# EAGLE library part 4065_BREAKOUT (library coral_power)
TP4056 Micro USB 5V 1A 18650 Lithium Battery Charger Board, with Overcharge Over-Discharge Over-Current Protection
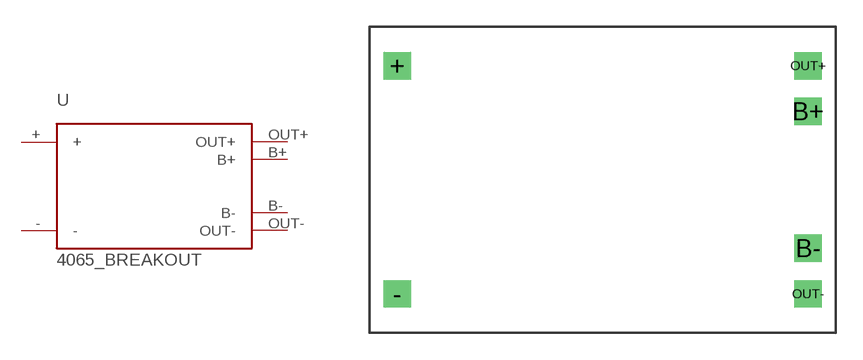
[diagram p0: symbol with the pads of CHARGE_MODULE; footprint CHARGE_MODULE]

Designator prefix -

## 4065_BREAKOUT  [CHARGE_MODULE]
+  +  in
-  -  in
B+  B+  out
B-  B-  out
OUT+  OUT+  out
OUT-  OUT-  out

## Footprint CHARGE_MODULE (pad centres in mm)
TP4056 Micro USB 5V 1A 18650 Lithium Battery Charger Board
drill 1.016 square: + -11.43,6.35; - -11.43,-6.35; B+ 11.43,3.81; B- 11.43,-3.81; OUT+ 11.43,6.35; OUT- 11.43,-6.35